# Altium schematic symbol library sensornode.SchLib: 2 symbols
Pins are listed as number, name and electrical type; pins without a type are passive.

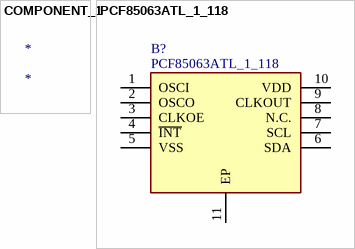
[diagram p0: symbols COMPONENT_1 to PCF85063ATL_1_118]

## COMPONENT_1
designator *

## PCF85063ATL_1_118
designator B?
NXP - PCF85063ATL/1,118 - REAL TIME CLOCK/CALENDAR, BINARY, HXSON; Geometry.Height: 0.5mm; Mouser Part Number: 771-PCF85063ATL1118; Mouser Price/Stock: https://www.mouser.co.uk/ProductDetail/NXP-Semiconductors/PCF85063ATL-1118?qs=fi7yB2oewZkLUjzuQ0vPOQ%3D%3D; Manufacturer_Name: NXP; Manufacturer_Part_Number: PCF85063ATL/1,118; Datasheet Link: http://www.nxp.com/docs/en/data-sheet/PCF85063A.pdf
footprint SON50P260X260X50-11N
pins: 1 OSCI, 2 OSCO, 3 CLKOE, 4 ~{INT}, 5 VSS, 6 SDA, 7 SCL, 8 N.C., 9 CLKOUT, 10 VDD, 11 EP